# Altium integrated library 9680483.IntLib: 14 symbols
Pins are listed as number, name and electrical type; pins without a type are passive.

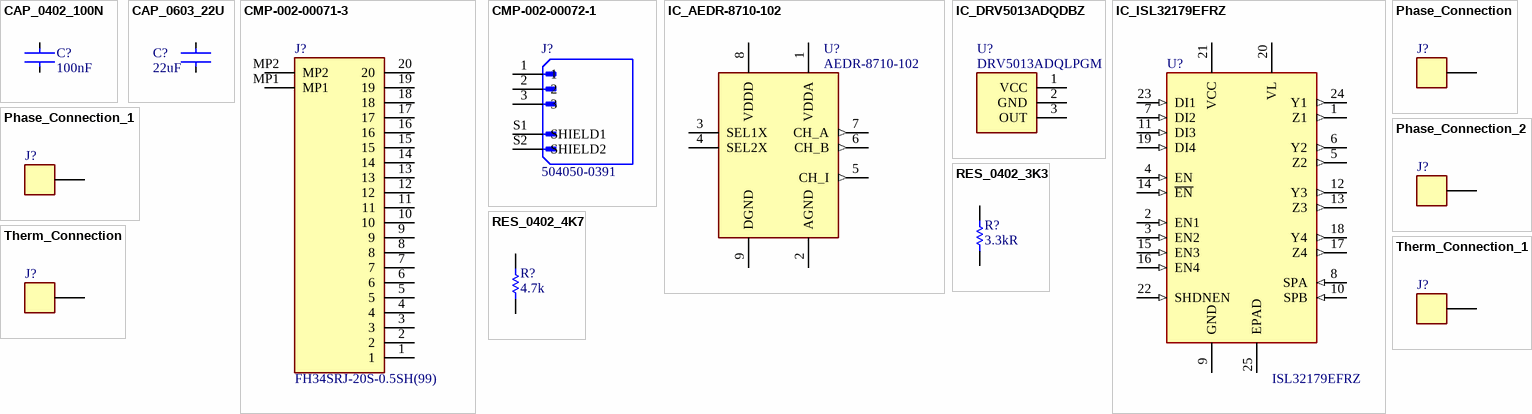
[diagram p0: symbols CAP_0402_100N to Therm_Connection_1]

## CAP_0402_100N
designator C?, comment 100nF
Cap Ceramic 100nF 25V X7R 10% Pad SMD 0402 +125°C Automotive T/R; Manufacturer: TDK; Mfg PN: CGA2B3X7R1E104K050BB; Multilayer: Yes; Reference Standard: AEC-Q200; Supplier: Digikey; Supplier Part Number: 445-6902-1-ND; RoHS: Yes; Category: Ceramic Capacitors; Stock: 3341344; Pricing: 1=0.12, 10=0.081, 50=0.0486, 100=0.0383, 500=0.02828, 1000=0.02341, 2500=0.02178, 5000=0.01993, 10000=0.01854, 20000=0.01761, 30000=0.01669, 50000=0.0153, 100000=0.01264, 250000=0.01159 (USD); Mounting Technology: Surface Mount; Pins: 2; Dielectric Material: Ceramic; Package Shape: Rectangular; Case/Package: 0402; Terminal Finish: Nickel; Min Operating Temperature: -55°C; Max Operating Temperature: 125°C; JESD-609 Code: e3; Value: 100nF; Capacitor Type: Ceramic; Tolerance  (fill in as +-): 10%; Package Style: SMTMeter; Packaging: Tape and Reel; Tolerance (fill in as +-): 10%; Rated DC Voltage (URdc): 25V; Temperature Characteristics Code: X7R; Termination: Wraparound; Length: 1mm; Width: 0.5mm; Height: 0.5mm; Reach SVHC Compliant: Yes; RoHS Compliant: Yes; ComponentLink1URL: https://datasheet.ciiva.com:443/pdfs/VipMasterIC/IC/TDKC/TDKC-S-A0008953915/TDKC-S-A0008953915-1.pdf?src-supplier=IHS+Markit; ComponentLink1Description: https://datasheet.ciiva.com:443/pdfs/VipMasterIC/IC/TDKC/TDKC-S-A0008953915/TDKC-S-A0008953915-1.pdf?src-supplier=IHS+Markit; ComponentLink2URL: https://datasheet.ciiva.com/24216/cga2b3x7r1e104k050bb-266280-24216396.pdf?src-supplier=Mouser; ComponentLink2Description: https://datasheet.ciiva.com/24216/cga2b3x7r1e104k050bb-266280-24216396.pdf?src-supplier=Mouser; ComponentLink3URL: https://datasheet.ciiva.com/22725/1735392-22725626.pdf?src-supplier=Element14; ComponentLink3Description: https://datasheet.ciiva.com/22725/1735392-22725626.pdf?src-supplier=Element14; ComponentLink4URL: https://datasheet.ciiva.com/28563/1735392-28563942.pdf?src-supplier=Element14; ComponentLink4Description: https://datasheet.ciiva.com/28563/1735392-28563942.pdf?src-supplier=Element14; ComponentLink5URL: https://datasheet.ciiva.com/23803/1936565-23803070.pdf?src-supplier=Newark; ComponentLink5Description: https://datasheet.ciiva.com/23803/1936565-23803070.pdf?src-supplier=Newark
footprint CAP_0402
pins: 1, 2

## CAP_0603_22U
designator C?, comment 22uF
Ceramic Capacitor, Multilayer, Ceramic, 16V, 20% +Tol, 20% -Tol, X5R, 15% TC, 22uF, Surface Mount, 0603; Manufacturer: Samsung; Mfg PN: CL10A226MO7JZNC; Multilayer: Yes; Supplier: Digikey; Supplier Part Number: 1276-7076-1-ND; RoHS: Yes; Category: Ceramic Capacitors; Stock: 1020973; Pricing: 1=0.59, 10=0.398, 50=0.3164, 100=0.2614, 500=0.20418, 1000=0.17355, 4000=0.15314, 8000=0.14293, 12000=0.14038, 28000=0.13782 (USD); Mounting Technology: Surface Mount; Pins: 2; Dielectric Material: Ceramic; Package Shape: Rectangular; Case/Package: 0603; Min Operating Temperature: -55°C; Max Operating Temperature: 85°C; Value: 22uF; Capacitor Type: Ceramic; Tolerance  (fill in as +-): 20%; Packaging: Tape and Reel; Tolerance (fill in as +-): 20%; Rated DC Voltage (URdc): 16V; Temperature Characteristics Code: X5R; Termination: Wraparound; Reach SVHC Compliant: Yes; RoHS Compliant: Yes; ComponentLink1URL: https://datasheet.ciiva.com:443/pdfs/VipMasterIC/IC/SEMS/SEMS-S-A0008524842/SEMS-S-A0008524715-1.pdf?src-supplier=IHS+Markit; ComponentLink1Description: https://datasheet.ciiva.com:443/pdfs/VipMasterIC/IC/SEMS/SEMS-S-A0008524842/SEMS-S-A0008524715-1.pdf?src-supplier=IHS+Markit; ComponentLink2URL: http://www.samsungsem.com/kr/support/product-search/mlcc/CL10A226MO7JZNC.jsp?src-supplier=Digikey; ComponentLink2Description: http://www.samsungsem.com/kr/support/product-search/mlcc/CL10A226MO7JZNC.jsp?src-supplier=Digikey; ComponentLink3URL: https://datasheet.octopart.com/CL10A226MO7JZNC-Samsung-Electro-Mechanics-datasheet-149156497.pdf?src-supplier=Future+Electronics; ComponentLink3Description: https://datasheet.octopart.com/CL10A226MO7JZNC-Samsung-Electro-Mechanics-datasheet-149156497.pdf?src-supplier=Future+Electronics
footprint CAP_0603
pins: 1, 2

## CMP-002-00071-3
designator J?, comment FH34SRJ-20S-0.5SH(99)
FFC/FPC Connector, 20 Contact(s), 1 Row(s), Female, Right Angle, Surface Mount Terminal; Additional Feature: POLARIZED; Connector Type: CARD EDGE CONNECTOR; RoHS Compliant: Yes; Contact Finish - Mating: GOLD; Contact Finish - Termination: GOLD; Mounting Technology: Board
footprint FH34SRJ20S05SH99
pins: 1, 2, 3, 4, 5, 6, 7, 8, 9, 10, 11, 12, 13, 14, 15, 16, 17, 18, 19, 20, MP1, MP2

## CMP-002-00072-1
designator J?, comment 504050-0391
Pico-Lock Header Connector 3 Position 1.5mm Right Angle Surface Mount Emboss T/R
footprint MOLEX_5040500391
pins: 1, 2, 3, S1 SHIELD1, S2 SHIELD2

## IC_AEDR-8710-102
designator U?, comment AEDR-8710-102
High Resolution Reflective Incremental Encoder 9-Pin SMD T/R; Manufacturer: Broadcom Avago; Optoelectronic Device Type: ROTARY POSITION ENCODER; Supplier: Digikey; Supplier Part Number: 516-3187-1-ND; Mfg PN: AEDR-8710-102; RoHS: Yes; Stock: 27666; Pricing: 1=32.61, 5=29.19, 10=27.397, 25=25.1136, 50=23.4828 (USD); Reach SVHC Compliant: Yes; RoHS Compliant: Yes; ComponentLink1URL: https://datasheet.ciiva.com:443/pdfs/VipMasterIC/IC/AVGO/AVGOS05888/AVGOS05888-1.pdf?src-supplier=IHS+Markit; ComponentLink1Description: https://datasheet.ciiva.com:443/pdfs/VipMasterIC/IC/AVGO/AVGOS05888/AVGOS05888-1.pdf?src-supplier=IHS+Markit; ComponentLink2URL: http://www.farnell.com/datasheets/1884435.pdf?src-supplier=Farnell; ComponentLink2Description: http://www.farnell.com/datasheets/1884435.pdf?src-supplier=Farnell; ComponentLink3URL: https://docs.broadcom.com/docs/AV02-4517EN?src-supplier=Digikey; ComponentLink3Description: https://docs.broadcom.com/docs/AV02-4517EN?src-supplier=Digikey; ComponentLink4URL: http://www.farnell.com/datasheets/1884435.pdf?src-supplier=Element14; ComponentLink4Description: http://www.farnell.com/datasheets/1884435.pdf?src-supplier=Element14; ComponentLink5URL: http://www.avagotech.com/docs/AV02-4517EN?src-supplier=Avnet; ComponentLink5Description: http://www.avagotech.com/docs/AV02-4517EN?src-supplier=Avnet; ComponentLink6URL: http://www.farnell.com/datasheets/1884435.pdf?src-supplier=Newark; ComponentLink6Description: http://www.farnell.com/datasheets/1884435.pdf?src-supplier=Newark
footprint XDCR_AEDR-8710-102
pins: 1 VDDA (power), 2 AGND, 3 SEL1X, 4 SEL2X, 5 CH_I (out), 6 CH_B (out), 7 CH_A (out), 8 VDDD (power), 9 DGND

## IC_DRV5013ADQDBZ
designator U?, comment DRV5013ADQLPGM
Hall Effect Sensor, -5mT Min, 5mT Max, 0-38V, Plastic/epoxy, Rectangular, Surface Mount; Manufacturer: Texas Instruments; Sensor Type: MAGNETIC FIELD SENSOR,HALL EFFECT; Supplier: Mouser; Supplier Part Number: 595-DRV5013ADQLPGM; Mfg PN: DRV5013ADQLPGM; RoHS: Yes; Category: Integrated Circuits (ICs); Stock: 5633; Pricing: 1=0.61, 10=0.413, 50=0.413, 100=0.322, 1000=0.249, 10000=0.137 (USD); Terminal Finish: Tin; JESD-609 Code: e3; Reach SVHC Compliant: Yes; RoHS Compliant: Yes; ComponentLink1URL: https://www.ti.com:443/lit/ds/symlink/drv5013.pdf?src-supplier=IHS+Markit; ComponentLink1Description: https://www.ti.com:443/lit/ds/symlink/drv5013.pdf?src-supplier=IHS+Markit; ComponentLink2URL: http://www.ti.com/general/docs/suppproductinfo.tsp?distId=10&amp;gotoUrl=http%3A%2F%2Fwww.ti.com%2Flit%2Fgpn%2Fdrv5013&src-supplier=Digikey; ComponentLink2Description: http://www.ti.com/general/docs/suppproductinfo.tsp?distId=10&amp;gotoUrl=http%3A%2F%2Fwww.ti.com%2Flit%2Fgpn%2Fdrv5013&src-supplier=Digikey; ComponentLink3URL: http://www.ti.com/general/docs/lit/getliterature.tsp?genericPartNumber=DRV5013&&fileType=pdf&src-supplier=Avnet; ComponentLink3Description: http://www.ti.com/general/docs/lit/getliterature.tsp?genericPartNumber=DRV5013&&fileType=pdf&src-supplier=Avnet
footprint TO-92-3 (TO-92, 3-leads, Height 3.15mm, Pitch 1.27mm)
pins: 1 VCC, 2 GND, 3 OUT

## IC_ISL32179EFRZ
designator U?, comment ISL32179EFRZ
Line Driver, 4 Func, 4 Driver, BICMOS; Manufacturer: Renesas; Max Supply Voltage: 5.5V; Min Supply Voltage: 3V; Supplier: Mouser; Supplier Part Number: 968-ISL32179EFRZ; Mfg PN: ISL32179EFRZ; RoHS: Yes; Category: RS-232 / RS-422 / RS-485 Interface ICs; Stock: 2706; Pricing: 1=2.84, 10=2.41, 50=2.41, 100=1.98, 1000=1.49, 10000=1.37 (USD); Pins: 24; Case/Package: QFN; ComponentLink1URL: https://datasheet.ciiva.com:443/pdfs/VipMasterIC/IC/RNCC/RNCC-S-A0009973820/RNCC-S-A0009973820-1.pdf?src-supplier=IHS+Markit; ComponentLink1Description: https://datasheet.ciiva.com:443/pdfs/VipMasterIC/IC/RNCC/RNCC-S-A0009973820/RNCC-S-A0009973820-1.pdf?src-supplier=IHS+Markit; ComponentLink2URL: https://www.renesas.com/en-us/www/doc/datasheet/isl3232e-4221e-4223e.pdf?src-supplier=Digikey; ComponentLink2Description: https://www.renesas.com/en-us/www/doc/datasheet/isl3232e-4221e-4223e.pdf?src-supplier=Digikey
footprint QFN24_2P50X2P50_INR
pins: 1 Z1 (out), 2 EN1 (in), 3 EN2 (in), 4 EN (in), 5 Z2 (out), 6 Y2 (out), 7 DI2 (in), 8 SPA (in), 9 GND (power), 10 SPB (in), 11 DI3 (in), 12 Y3 (out), 13 Z3 (out), 14 ~{EN} (in), 15 EN3 (in), 16 EN4 (in), 17 Z4 (out), 18 Y4 (out), 19 DI4 (in), 20 VL (power), 21 VCC (power), 22 SHDNEN (in), 23 DI1 (in), 24 Y1 (out), 25 EPAD

## Phase_Connection
designator J?, comment PH A  (value not drawn)  (no BOM)
footprint Phase_Connection (Solder Hole for Phase connection, wire gauge used is AWG 28, heavy, diameter should be approximately 0.366 mm - 0.38 mm)
pins: 1

## Phase_Connection_1
designator J?, comment PH B  (value not drawn)  (no BOM)
footprint Phase_Connection (Solder Hole for Phase connection, wire gauge used is AWG 28, heavy, diameter should be approximately 0.366 mm - 0.38 mm)
pins: 1

## Phase_Connection_2
designator J?, comment PH C  (value not drawn)  (no BOM)
footprint Phase_Connection (Solder Hole for Phase connection, wire gauge used is AWG 28, heavy, diameter should be approximately 0.366 mm - 0.38 mm)
pins: 1

## RES_0402_3K3
designator R?, comment 3.3kR
Chip Resistor, 3.3 KOhm, +/- 1%, 0.1 W, -55 to 155 degC, 0402 (1005 Metric), RoHS, Tape and Reel; Manufacturer: Panasonic; Mfg PN: ERJ-2RKF3301X; Power: 100mW; Rated Temperature: 70°C; Temperature Coefficient: 100ppm/°C; Working Voltage: 50V; Package Height: 0.35mm; Package Length: 1mm; Package Width: 0.5mm; Reference Standard: AEC-Q200; Supplier: Future Electronics; Supplier Part Number: 6048687; RoHS: Yes; Category: Chip SMD Resistors; Stock: 250000; Pricing: 10000=0.0034, 40000=0.0033, 100000=0.0032, 250000=0.0031, 400000=0.003 (USD); Mounting Technology: Surface Mount; Pins: 2; Package Shape: Rectangular; Case/Package: 0402; Terminal Finish: Nickel; Min Operating Temperature: -55°C; Max Operating Temperature: 155°C; Tolerance: 1%; JESD-609 Code: e3; Resistor Type: FIXED RESISTOR; Construction: Rectangular; Package Style: SMTMeter; Packaging: Tape and Reel; Value: 3.3kR; Technology: METAL GLAZE/THICK FILM; Termination: Wraparound; Reach SVHC Compliant: Yes; RoHS Compliant: Yes; ComponentLink1URL: https://datasheet.ciiva.com:443/pdfs/VipMasterIC/IC/PANA/PANA-S-A0009889626/PANA-S-A0009889626-1.pdf?src-supplier=IHS+Markit; ComponentLink1Description: https://datasheet.ciiva.com:443/pdfs/VipMasterIC/IC/PANA/PANA-S-A0009889626/PANA-S-A0009889626-1.pdf?src-supplier=IHS+Markit; ComponentLink2URL: https://datasheet.ciiva.com/11821/0900766b80f80784-11821314.pdf?src-supplier=Rs; ComponentLink2Description: https://datasheet.ciiva.com/11821/0900766b80f80784-11821314.pdf?src-supplier=Rs; ComponentLink3URL: https://datasheet.ciiva.com/6138/aoa0000ce2-6138172.pdf?src-supplier=Farnell; ComponentLink3Description: https://datasheet.ciiva.com/6138/aoa0000ce2-6138172.pdf?src-supplier=Farnell; ComponentLink4URL: https://datasheet.ciiva.com/43467/1678782-43467358.pdf?src-supplier=Farnell; ComponentLink4Description: https://datasheet.ciiva.com/43467/1678782-43467358.pdf?src-supplier=Farnell; ComponentLink5URL: https://datasheet.ciiva.com/46372/1678782-46372730.pdf?src-supplier=Element14; ComponentLink5Description: https://datasheet.ciiva.com/46372/1678782-46372730.pdf?src-supplier=Element14; ComponentLink6URL: https://datasheet.ciiva.com/46372/1678782-46372731.pdf?src-supplier=Element14; ComponentLink6Description: https://datasheet.ciiva.com/46372/1678782-46372731.pdf?src-supplier=Element14; ComponentLink7URL: https://datasheet.ciiva.com/7802/aoa0000ce2-7802408.pdf?src-supplier=Element14; ComponentLink7Description: https://datasheet.ciiva.com/7802/aoa0000ce2-7802408.pdf?src-supplier=Element14; ComponentLink8URL: https://datasheet.ciiva.com/22667/1678782-22667883.pdf?src-supplier=Element14; ComponentLink8Description: https://datasheet.ciiva.com/22667/1678782-22667883.pdf?src-supplier=Element14; ComponentLink9URL: https://datasheet.ciiva.com/22687/1678782-22687445.pdf?src-supplier=Element14; ComponentLink9Description: https://datasheet.ciiva.com/22687/1678782-22687445.pdf?src-supplier=Element14
footprint RESC1005X40X25ML05T05 (Chip Resistor, 2-Leads, Body 1.05x0.55mm, IPC Low Density)
pins: 1, 2

## RES_0402_4K7
designator R?, comment 4.7k
Fixed Resistor, Thin Film, 0.063W, 4700ohm, 50V, 0.1% +/-Tol, 25ppm/Cel, Surface Mount, 0402; Manufacturer: Panasonic; Mfg PN: ERA-2AEB472X; Power: 63mW; Rated Temperature: 85°C; Temperature Coefficient: 25ppm/°C; Working Voltage: 25V; Package Height: 0.35mm; Package Length: 1mm; Package Width: 0.5mm; Reference Standard: AEC-Q200; Supplier: Future Electronics; Supplier Part Number: 9028537; RoHS: Yes; Category: Chip SMD Resistors; Stock: 200000; Pricing: 10000=0.0414, 20000=0.0407, 30000=0.0404, 40000=0.0401, 50000=0.0393 (USD); Mounting Technology: Surface Mount; Pins: 2; Case/Package: 0402; Terminal Finish: Nickel; Min Operating Temperature: -55°C; Max Operating Temperature: 155°C; Tolerance: 0.1%; JESD-609 Code: e3; Resistor Type: FIXED RESISTOR; Construction: Rectangular; Package Style: SMTMeter; Packaging: Tape and Reel; Value: 4.7k; Technology: THIN FILM; Termination: Wraparound; Reach SVHC Compliant: Yes; RoHS Compliant: Yes; ComponentLink1URL: https://datasheet.ciiva.com:443/pdfs/VipMasterIC/IC/PANA/PANA-S-A0009459258/PANA-S-A0009459258-1.pdf?src-supplier=IHS+Markit; ComponentLink1Description: https://datasheet.ciiva.com:443/pdfs/VipMasterIC/IC/PANA/PANA-S-A0009459258/PANA-S-A0009459258-1.pdf?src-supplier=IHS+Markit; ComponentLink2URL: https://datasheet.ciiva.com/11811/0900766b80beefcc-11811886.pdf?src-supplier=Rs; ComponentLink2Description: https://datasheet.ciiva.com/11811/0900766b80beefcc-11811886.pdf?src-supplier=Rs; ComponentLink3URL: https://datasheet.ciiva.com/22743/1776116-22743051.pdf?src-supplier=Element14; ComponentLink3Description: https://datasheet.ciiva.com/22743/1776116-22743051.pdf?src-supplier=Element14; ComponentLink4URL: https://datasheet.ciiva.com/46399/328837-46399002.pdf?src-supplier=Element14; ComponentLink4Description: https://datasheet.ciiva.com/46399/328837-46399002.pdf?src-supplier=Element14; ComponentLink5URL: https://datasheet.ciiva.com/24023/aoa0000ce26-197354-24023865.pdf?src-supplier=Mouser; ComponentLink5Description: https://datasheet.ciiva.com/24023/aoa0000ce26-197354-24023865.pdf?src-supplier=Mouser; ComponentLink6URL: https://datasheet.ciiva.com/22640/328837-22640615.pdf?src-supplier=Farnell; ComponentLink6Description: https://datasheet.ciiva.com/22640/328837-22640615.pdf?src-supplier=Farnell; ComponentLink7URL: https://datasheet.ciiva.com/25723/1776116-25723855.pdf?src-supplier=Farnell; ComponentLink7Description: https://datasheet.ciiva.com/25723/1776116-25723855.pdf?src-supplier=Farnell; ComponentLink8URL: https://datasheet.ciiva.com/9117/aoa0000ce26-9117420.pdf?src-supplier=Avnet; ComponentLink8Description: https://datasheet.ciiva.com/9117/aoa0000ce26-9117420.pdf?src-supplier=Avnet; ComponentLink9URL: https://datasheet.ciiva.com/9117/aoa0000ce26-9117423.pdf?src-supplier=Avnet; ComponentLink9Description: https://datasheet.ciiva.com/9117/aoa0000ce26-9117423.pdf?src-supplier=Avnet
footprint RESC1005X40X25ML05T05 (Chip Resistor, 2-Leads, Body 1.05x0.55mm, IPC Low Density)
pins: 1, 2

## Therm_Connection
designator J?, comment TPOS  (value not drawn)  (no BOM)
footprint Thermistor_Connection (Solder Hole for Thermistor Connection, Thermistor lead is 0.2 mm +/- 0.02 mm)
pins: 1

## Therm_Connection_1
designator J?, comment TNEG  (value not drawn)  (no BOM)
footprint Thermistor_Connection (Solder Hole for Thermistor Connection, Thermistor lead is 0.2 mm +/- 0.02 mm)
pins: 1